# Altium schematic symbol library GOST_Diodes.SchLib: 6 symbols
Pins are listed as number, name and electrical type; pins without a type are passive.

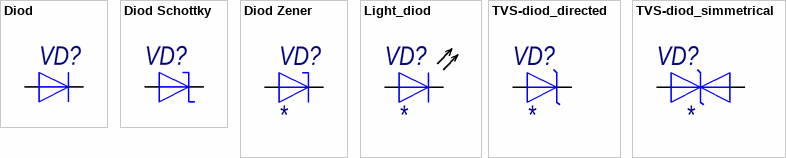
[diagram p0: symbols Diod to TVS-diod_simmetrical]

## Diod
designator VD?  (value not drawn)
Manufacture: *; Model: *; HelpURL: *; U_thr: *
footprint SMA
footprint SOT23_123 (SOT23, 3-Leads, Body 3,0x2,6mm (max), Pitch 0,95mm, IPC Medium Density)
footprint SOT23_132 (SOT23, 3-Leads, Body 3,0x2,6mm (max), Pitch 0,95mm, IPC Medium Density)
footprint SOT23_231 (SOT23, 3-Leads, Body 3,0x2,6mm (max), Pitch 0,95mm, IPC Medium Density)
footprint SOD123
footprint SOD123F (Schottky Diode, 2-Leads, Body 3x2mm, 0.4W)
footprint SOD323
footprint SOD80
footprint TO247_13 (3-Lead Plastic TO-247)
footprint SOD123W
footprint SMB
footprint DIOD: PowerDI-5
footprint TO220FPAC
footprint TO220-2
footprint SMC
pins: 1, 2

## Diod Schottky
designator VD?  (value not drawn)
Manufacture: *; Model: *; HelpURL: *; U_thr: *
footprint SOT23_123 (SOT23, 3-Leads, Body 3,0x2,6mm (max), Pitch 0,95mm, IPC Medium Density)
footprint SOT23_132 (SOT23, 3-Leads, Body 3,0x2,6mm (max), Pitch 0,95mm, IPC Medium Density)
footprint SOT23_231 (SOT23, 3-Leads, Body 3,0x2,6mm (max), Pitch 0,95mm, IPC Medium Density)
footprint SOD123
footprint SOD123F (Schottky Diode, 2-Leads, Body 3x2mm, 0.4W)
footprint SOD323
footprint SOD80
footprint SMA
footprint DO221AA
footprint SOD123W
footprint SMB
footprint SMC
footprint TO220FPAC
footprint DPAK - 21 (D-Pak, Body 6,2x6,7mm)
footprint TO220-2
footprint TO220-2 _H
pins: 1, 2

## Diod Zener
designator VD?
Manufacture: *; Model: *; HelpURL: *; U_thr: *
footprint SMA
footprint SMB (DO-214-AA/SMB)
footprint SMC
footprint SOT23_123 (SOT23, 3-Leads, Body 3,0x2,6mm (max), Pitch 0,95mm, IPC Medium Density)
footprint SOT23_132 (SOT23, 3-Leads, Body 3,0x2,6mm (max), Pitch 0,95mm, IPC Medium Density)
footprint SOT23_231 (SOT23, 3-Leads, Body 3,0x2,6mm (max), Pitch 0,95mm, IPC Medium Density)
footprint SOD123
footprint SOD123F (Schottky Diode, 2-Leads, Body 3x2mm, 0.4W)
footprint SOD323
footprint SOD80
footprint SOD123W
footprint SMB
footprint SOD523
pins: 1, 2

## Light_diod
designator VD?
Model: *; Manufacture: *; HelpURL: *; U_thr: *; I_f: *; Color: *
pins: 1, 2

## TVS-diod_directed
designator VD?
Manufacture: *; Model: *; HelpURL: *; Ipp: *; Case: *; U_clamp: *
footprint SMA
footprint SMB (DO-214-AA/SMB)
footprint SMC
footprint SOT23_123 (SOT23, 3-Leads, Body 3,0x2,6mm (max), Pitch 0,95mm, IPC Medium Density)
footprint SOT23_132 (SOT23, 3-Leads, Body 3,0x2,6mm (max), Pitch 0,95mm, IPC Medium Density)
footprint SOT23_231 (SOT23, 3-Leads, Body 3,0x2,6mm (max), Pitch 0,95mm, IPC Medium Density)
footprint SOD123
footprint SOD123F (Schottky Diode, 2-Leads, Body 3x2mm, 0.4W)
footprint SOD323
footprint SOD80
footprint SOD123W
footprint SMB
footprint SOD523
pins: 1, 2

## TVS-diod_simmetrical
designator VD?
Case: *; Manufacture: *; Model: *; HelpURL: *; Ipp: *; U_thr: *
footprint SMA
footprint SMB (DO-214-AA/SMB)
footprint SMC
footprint SOT23_123 (SOT23, 3-Leads, Body 3,0x2,6mm (max), Pitch 0,95mm, IPC Medium Density)
footprint SOT23_132 (SOT23, 3-Leads, Body 3,0x2,6mm (max), Pitch 0,95mm, IPC Medium Density)
footprint SOT23_231 (SOT23, 3-Leads, Body 3,0x2,6mm (max), Pitch 0,95mm, IPC Medium Density)
footprint SOD123
footprint SOD123F (Schottky Diode, 2-Leads, Body 3x2mm, 0.4W)
footprint SOD323
footprint SOD80
footprint SOD123W
footprint SMB
footprint SOD523
pins: 1, 2